# Altium integrated library Lattice Semiconductor ispMACH 4000V.IntLib: 226 symbols (part 21 of 33)
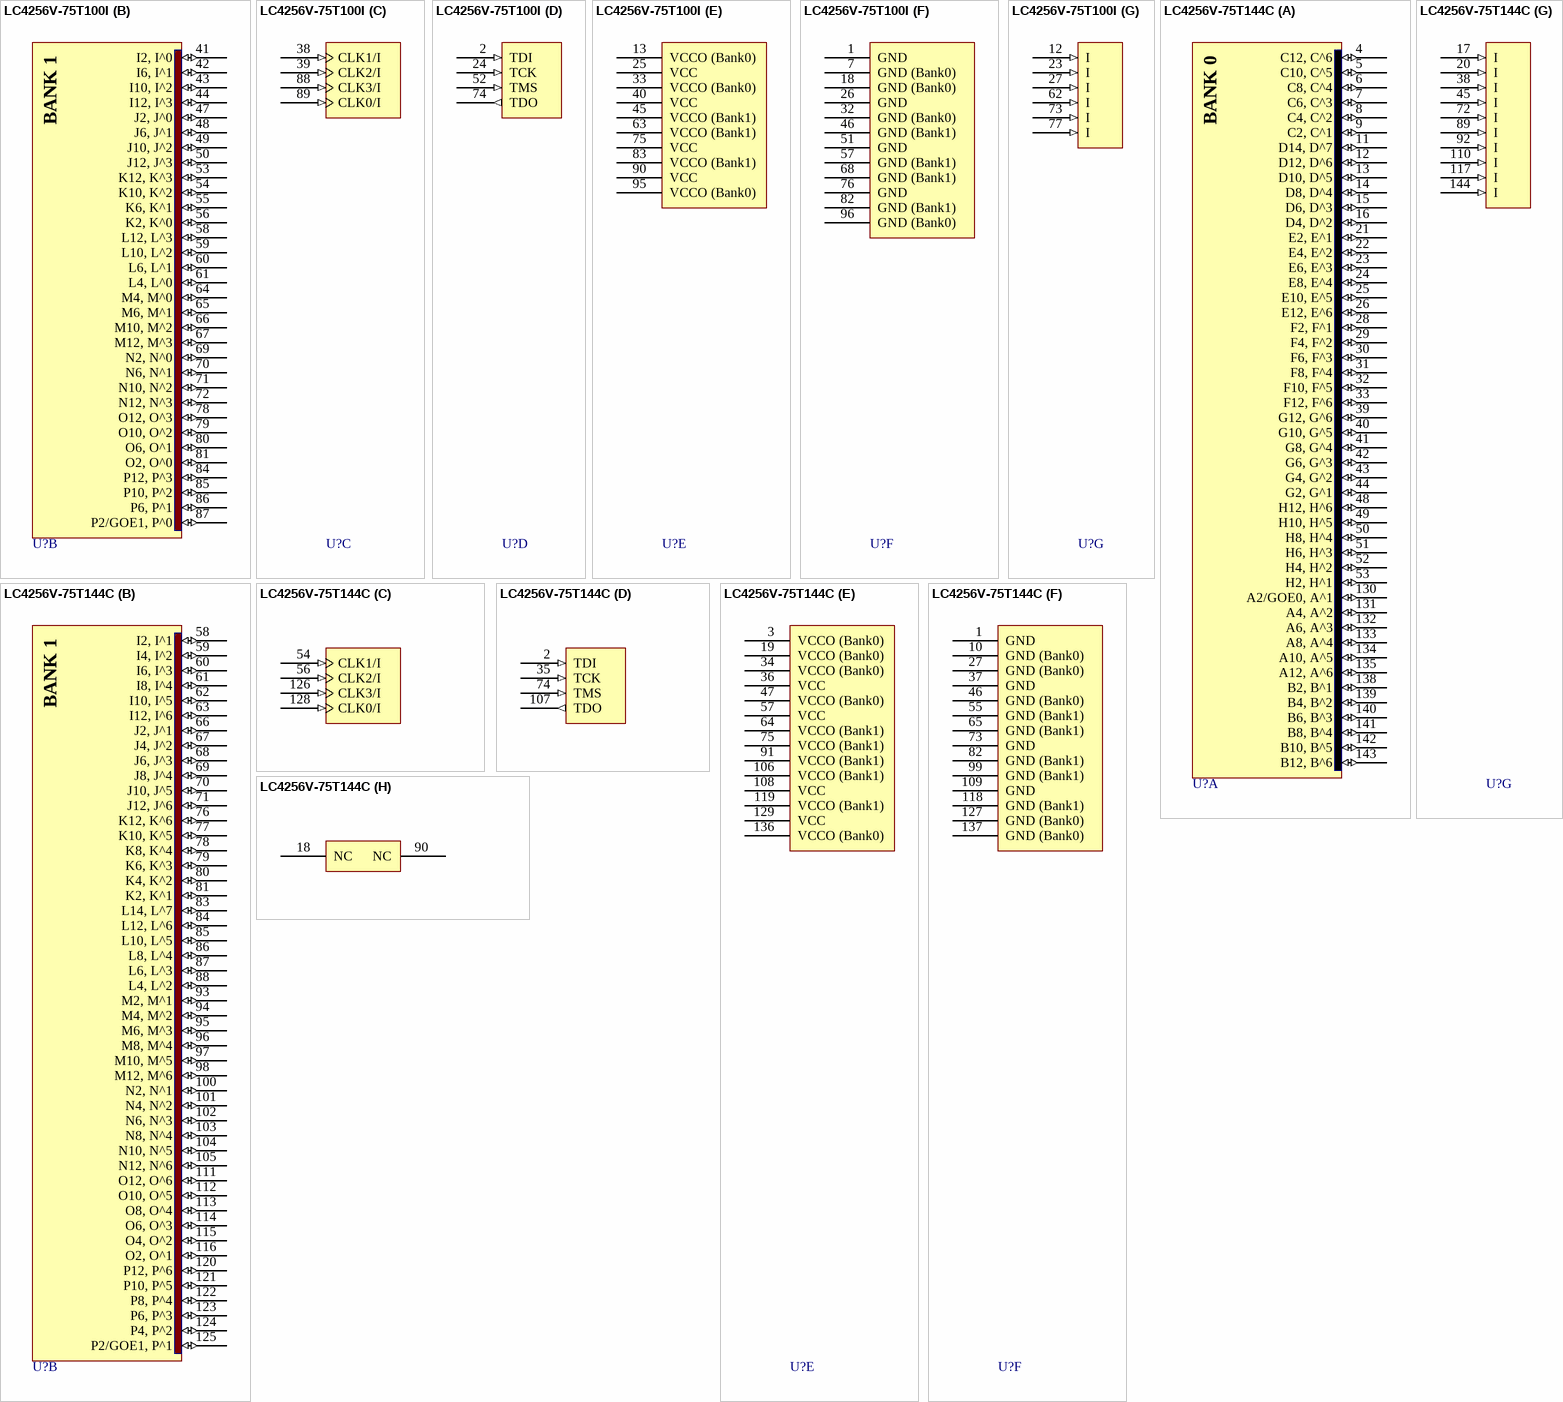
[diagram p147: symbols LC4256V-75T100I to LC4256V-75T144C]

## LC4256V-75T144C
designator U?
ispMACH 4256 SuperFAST High Density PLD, 3.3 V, 96 User I/Os, 144-Pin TQFP, 7.5 ns, Commercial Grade; DatasheetVersion: ver22.3, Mar-2007; PackageVersion: ver02.8, Jul-2011; PackageReference: TQFP144; PackageDescription: 144-Pin Thin Quad Flat Pack (TQFP144); Code_JEDEC: MS-026-BFB; ComponentLink1Description: Manufacturer URL; ComponentLink1URL: http://www.latticesemi.com/; ComponentLink2Description: Datasheet; ComponentLink2URL: http://www.latticesemi.com/dynamic/view_document.cfm?document_id=3646
footprint TQFP144_N (Thin QFP, 144-Leads, Body 20x20mm, Pitch 0.5mm, IPC Medium Density)
footprint TQFP144_L (Thin QFP, 144-Leads, Body 20x20mm, Pitch 0.5mm, IPC High Density)
footprint TQFP144_M (Thin QFP, 144-Leads, Body 20x20mm, Pitch 0.5mm, IPC Low Density)
part A pins: 4 C12, C^6 (io) "General purpose I/O.", 5 C10, C^5 (io) "General purpose I/O.", 6 C8, C^4 (io) "General purpose I/O.", 7 C6, C^3 (io) "General purpose I/O.", 8 C4, C^2 (io) "General purpose I/O.", 9 C2, C^1 (io) "General purpose I/O.", 11 D14, D^7 (io) "General purpose I/O.", 12 D12, D^6 (io) "General purpose I/O.", 13 D10, D^5 (io) "General purpose I/O.", 14 D8, D^4 (io) "General purpose I/O.", 15 D6, D^3 (io) "General purpose I/O.", 16 D4, D^2 (io) "General purpose I/O.", 21 E2, E^1 (io) "General purpose I/O.", 22 E4, E^2 (io) "General purpose I/O.", 23 E6, E^3 (io) "General purpose I/O.", 24 E8, E^4 (io) "General purpose I/O.", 25 E10, E^5 (io) "General purpose I/O.", 26 E12, E^6 (io) "General purpose I/O.", 28 F2, F^1 (io) "General purpose I/O.", 29 F4, F^2 (io) "General purpose I/O.", 30 F6, F^3 (io) "General purpose I/O.", 31 F8, F^4 (io) "General purpose I/O.", 32 F10, F^5 (io) "General purpose I/O.", 33 F12, F^6 (io) "General purpose I/O.", 39 G12, G^6 (io) "General purpose I/O.", 40 G10, G^5 (io) "General purpose I/O.", 41 G8, G^4 (io) "General purpose I/O.", 42 G6, G^3 (io) "General purpose I/O.", 43 G4, G^2 (io) "General purpose I/O.", 44 G2, G^1 (io) "General purpose I/O.", 48 H12, H^6 (io) "General purpose I/O.", 49 H10, H^5 (io) "General purpose I/O.", 50 H8, H^4 (io) "General purpose I/O.", 51 H6, H^3 (io) "General purpose I/O.", 52 H4, H^2 (io) "General purpose I/O.", 53 H2, H^1 (io) "General purpose I/O.", 130 A2/GOE0, A^1 (io) "Either Global Output Enable Input or general I/O.", 131 A4, A^2 (io) "General purpose I/O.", 132 A6, A^3 (io) "General purpose I/O.", 133 A8, A^4 (io) "General purpose I/O.", 134 A10, A^5 (io) "General purpose I/O.", 135 A12, A^6 (io) "General purpose I/O.", 138 B2, B^1 (io) "General purpose I/O.", 139 B4, B^2 (io) "General purpose I/O.", 140 B6, B^3 (io) "General purpose I/O.", 141 B8, B^4 (io) "General purpose I/O.", 142 B10, B^5 (io) "General purpose I/O.", 143 B12, B^6 (io) "General purpose I/O."
part B pins: 58 I2, I^1 (io) "General purpose I/O.", 59 I4, I^2 (io) "General purpose I/O.", 60 I6, I^3 (io) "General purpose I/O.", 61 I8, I^4 (io) "General purpose I/O.", 62 I10, I^5 (io) "General purpose I/O.", 63 I12, I^6 (io) "General purpose I/O.", 66 J2, J^1 (io) "General purpose I/O.", 67 J4, J^2 (io) "General purpose I/O.", 68 J6, J^3 (io) "General purpose I/O.", 69 J8, J^4 (io) "General purpose I/O.", 70 J10, J^5 (io) "General purpose I/O.", 71 J12, J^6 (io) "General purpose I/O.", 76 K12, K^6 (io) "General purpose I/O.", 77 K10, K^5 (io) "General purpose I/O.", 78 K8, K^4 (io) "General purpose I/O.", 79 K6, K^3 (io) "General purpose I/O.", 80 K4, K^2 (io) "General purpose I/O.", 81 K2, K^1 (io) "General purpose I/O.", 83 L14, L^7 (io) "General purpose I/O.", 84 L12, L^6 (io) "General purpose I/O.", 85 L10, L^5 (io) "General purpose I/O.", 86 L8, L^4 (io) "General purpose I/O.", 87 L6, L^3 (io) "General purpose I/O.", 88 L4, L^2 (io) "General purpose I/O.", 93 M2, M^1 (io) "General purpose I/O.", 94 M4, M^2 (io) "General purpose I/O.", 95 M6, M^3 (io) "General purpose I/O.", 96 M8, M^4 (io) "General purpose I/O.", 97 M10, M^5 (io) "General purpose I/O.", 98 M12, M^6 (io) "General purpose I/O.", 100 N2, N^1 (io) "General purpose I/O.", 101 N4, N^2 (io) "General purpose I/O.", 102 N6, N^3 (io) "General purpose I/O.", 103 N8, N^4 (io) "General purpose I/O.", 104 N10, N^5 (io) "General purpose I/O.", 105 N12, N^6 (io) "General purpose I/O.", 111 O12, O^6 (io) "General purpose I/O.", 112 O10, O^5 (io) "General purpose I/O.", 113 O8, O^4 (io) "General purpose I/O.", 114 O6, O^3 (io) "General purpose I/O.", 115 O4, O^2 (io) "General purpose I/O.", 116 O2, O^1 (io) "General purpose I/O.", 120 P12, P^6 (io) "General purpose I/O.", 121 P10, P^5 (io) "General purpose I/O.", 122 P8, P^4 (io) "General purpose I/O.", 123 P6, P^3 (io) "General purpose I/O.", 124 P4, P^2 (io) "General purpose I/O.", 125 P2/GOE1, P^1 (io) "Either Global Output Enable Input or general I/O."
part C pins: 54 CLK1/I (in) "Either CLK input or input.", 56 CLK2/I (in) "Either CLK input or input.", 126 CLK3/I (in) "Either CLK input or input.", 128 CLK0/I (in) "Either CLK input or input."
part D pins: 2 TDI (in) "Test Data Input. Loads data into device using 1149.1 state machine.", 35 TCK (in) "Test Clock Input for 1149.1 state machine.", 74 TMS (in) "Test Mode Select Input to control 1149.1 state machine.", 107 TDO (out) "Test Data Output. Shifts data out of device using 1149.1."
part E pins: 3 VCCO (Bank0) (power) "Power supply pin for I/O bank.", 19 VCCO (Bank0) (power) "Power supply pin for I/O bank.", 34 VCCO (Bank0) (power) "Power supply pin for I/O bank.", 36 VCC (power) "Power supply for logic core and JTAG port.", 47 VCCO (Bank0) (power) "Power supply pin for I/O bank.", 57 VCC (power) "Power supply for logic core and JTAG port.", 64 VCCO (Bank1) (power) "Power supply pin for I/O bank.", 75 VCCO (Bank1) (power) "Power supply pin for I/O bank.", 91 VCCO (Bank1) (power) "Power supply pin for I/O bank.", 106 VCCO (Bank1) (power) "Power supply pin for I/O bank.", 108 VCC (power) "Power supply for logic core and JTAG port.", 119 VCCO (Bank1) (power) "Power supply pin for I/O bank.", 129 VCC (power) "Power supply for logic core and JTAG port.", 136 VCCO (Bank0) (power) "Power supply pin for I/O bank."
part F pins: 1 GND (power) "Ground", 10 GND (Bank0) (power) "I/O Ground", 27 GND (Bank0) (power) "I/O Ground", 37 GND (power) "Ground", 46 GND (Bank0) (power) "I/O Ground", 55 GND (Bank1) (power) "I/O Ground", 65 GND (Bank1) (power) "I/O Ground", 73 GND (power) "Ground", 82 GND (Bank1) (power) "I/O Ground", 99 GND (Bank1) (power) "I/O Ground", 109 GND (power) "Ground", 118 GND (Bank1) (power) "I/O Ground", 127 GND (Bank0) (power) "I/O Ground", 137 GND (Bank0) (power) "I/O Ground"
part G pins: 17 I (in) "Input Signal Pin.", 20 I (in) "Input Signal Pin.", 38 I (in) "Input Signal Pin.", 45 I (in) "Input Signal Pin.", 72 I (in) "Input Signal Pin.", 89 I (in) "Input Signal Pin.", 92 I (in) "Input Signal Pin.", 110 I (in) "Input Signal Pin.", 117 I (in) "Input Signal Pin.", 144 I (in) "Input Signal Pin."
part H pins: 18 NC "Not Connected.", 90 NC "Not Connected."
part A text: BANK 0
part B text: BANK 1

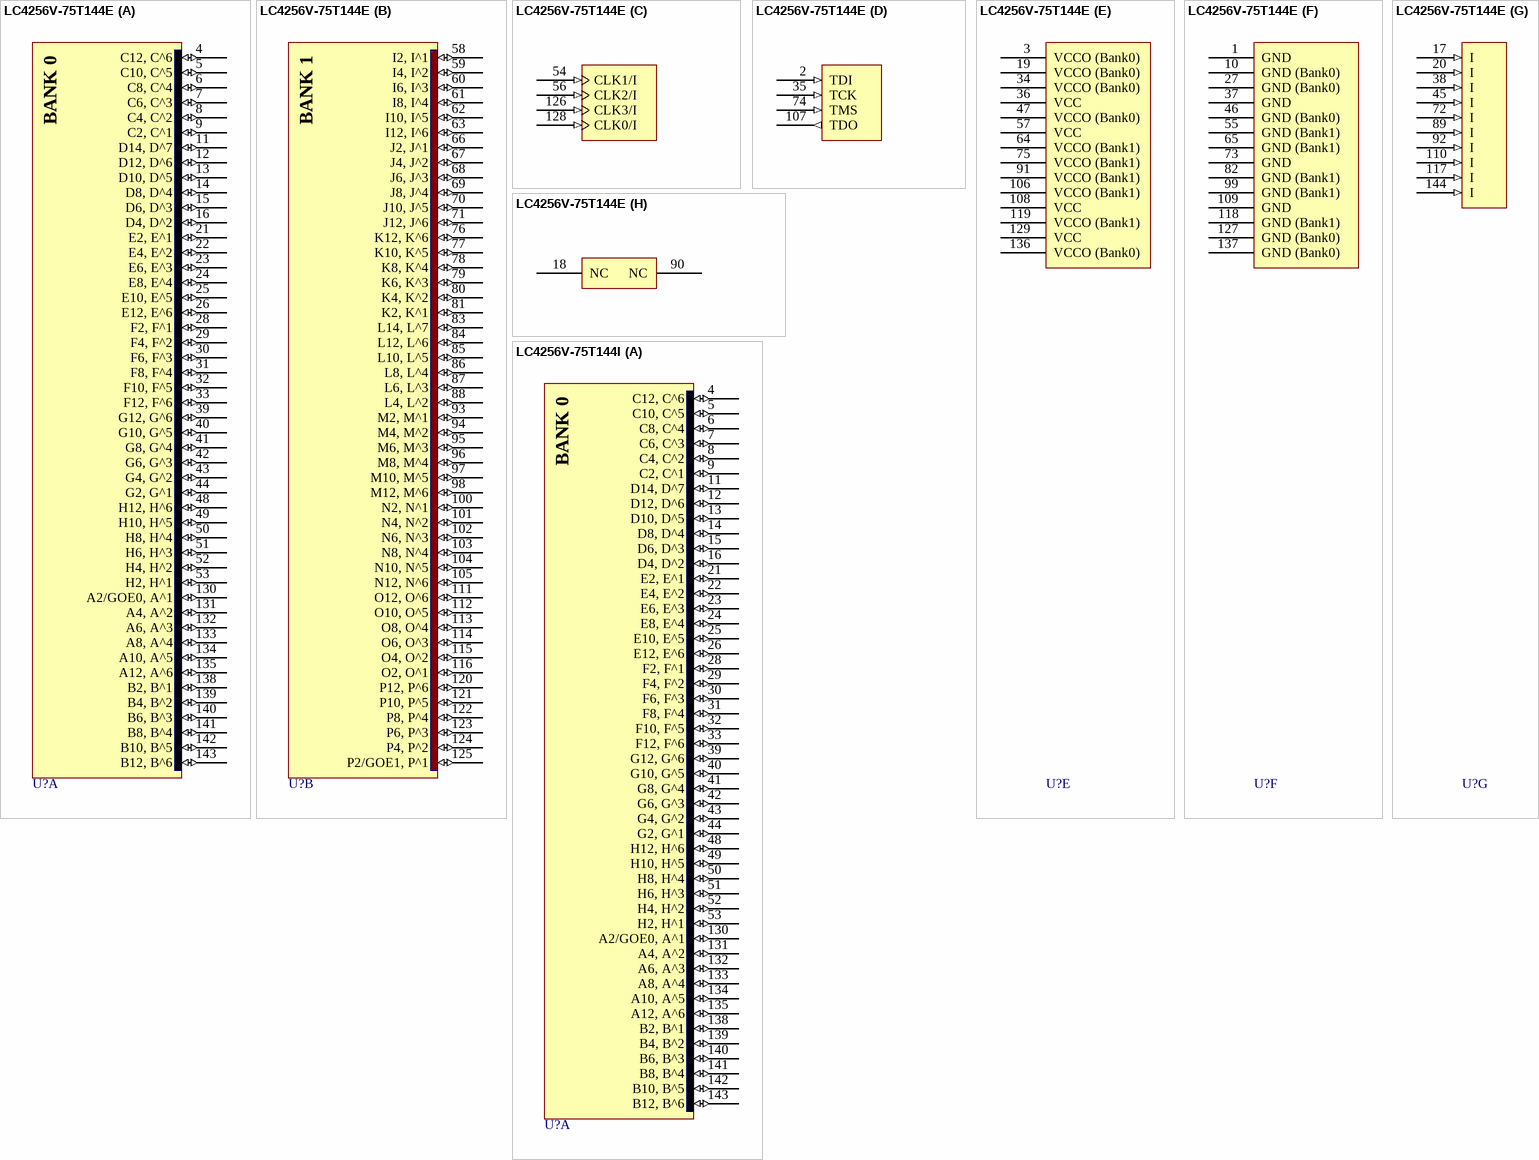
[diagram p77: symbols LC4256V-75T144E to LC4256V-75T144I]

## LC4256V-75T144E
designator U?
ispMACH 4256 SuperFAST High Density PLD, 3.3 V, 96 User I/Os, 144-Pin TQFP, 7.5 ns, Automotive Grade; DatasheetVersion: ver22.3, Mar-2007; PackageVersion: ver02.8, Jul-2011; PackageReference: TQFP144; PackageDescription: 144-Pin Thin Quad Flat Pack (TQFP144); Code_JEDEC: MS-026-BFB; ComponentLink1Description: Manufacturer URL; ComponentLink1URL: http://www.latticesemi.com/; ComponentLink2Description: Datasheet; ComponentLink2URL: http://www.latticesemi.com/dynamic/view_document.cfm?document_id=3646
footprint TQFP144_N (Thin QFP, 144-Leads, Body 20x20mm, Pitch 0.5mm, IPC Medium Density)
footprint TQFP144_L (Thin QFP, 144-Leads, Body 20x20mm, Pitch 0.5mm, IPC High Density)
footprint TQFP144_M (Thin QFP, 144-Leads, Body 20x20mm, Pitch 0.5mm, IPC Low Density)
part A pins: 4 C12, C^6 (io) "General purpose I/O.", 5 C10, C^5 (io) "General purpose I/O.", 6 C8, C^4 (io) "General purpose I/O.", 7 C6, C^3 (io) "General purpose I/O.", 8 C4, C^2 (io) "General purpose I/O.", 9 C2, C^1 (io) "General purpose I/O.", 11 D14, D^7 (io) "General purpose I/O.", 12 D12, D^6 (io) "General purpose I/O.", 13 D10, D^5 (io) "General purpose I/O.", 14 D8, D^4 (io) "General purpose I/O.", 15 D6, D^3 (io) "General purpose I/O.", 16 D4, D^2 (io) "General purpose I/O.", 21 E2, E^1 (io) "General purpose I/O.", 22 E4, E^2 (io) "General purpose I/O.", 23 E6, E^3 (io) "General purpose I/O.", 24 E8, E^4 (io) "General purpose I/O.", 25 E10, E^5 (io) "General purpose I/O.", 26 E12, E^6 (io) "General purpose I/O.", 28 F2, F^1 (io) "General purpose I/O.", 29 F4, F^2 (io) "General purpose I/O.", 30 F6, F^3 (io) "General purpose I/O.", 31 F8, F^4 (io) "General purpose I/O.", 32 F10, F^5 (io) "General purpose I/O.", 33 F12, F^6 (io) "General purpose I/O.", 39 G12, G^6 (io) "General purpose I/O.", 40 G10, G^5 (io) "General purpose I/O.", 41 G8, G^4 (io) "General purpose I/O.", 42 G6, G^3 (io) "General purpose I/O.", 43 G4, G^2 (io) "General purpose I/O.", 44 G2, G^1 (io) "General purpose I/O.", 48 H12, H^6 (io) "General purpose I/O.", 49 H10, H^5 (io) "General purpose I/O.", 50 H8, H^4 (io) "General purpose I/O.", 51 H6, H^3 (io) "General purpose I/O.", 52 H4, H^2 (io) "General purpose I/O.", 53 H2, H^1 (io) "General purpose I/O.", 130 A2/GOE0, A^1 (io) "Either Global Output Enable Input or general I/O.", 131 A4, A^2 (io) "General purpose I/O.", 132 A6, A^3 (io) "General purpose I/O.", 133 A8, A^4 (io) "General purpose I/O.", 134 A10, A^5 (io) "General purpose I/O.", 135 A12, A^6 (io) "General purpose I/O.", 138 B2, B^1 (io) "General purpose I/O.", 139 B4, B^2 (io) "General purpose I/O.", 140 B6, B^3 (io) "General purpose I/O.", 141 B8, B^4 (io) "General purpose I/O.", 142 B10, B^5 (io) "General purpose I/O.", 143 B12, B^6 (io) "General purpose I/O."
part B pins: 58 I2, I^1 (io) "General purpose I/O.", 59 I4, I^2 (io) "General purpose I/O.", 60 I6, I^3 (io) "General purpose I/O.", 61 I8, I^4 (io) "General purpose I/O.", 62 I10, I^5 (io) "General purpose I/O.", 63 I12, I^6 (io) "General purpose I/O.", 66 J2, J^1 (io) "General purpose I/O.", 67 J4, J^2 (io) "General purpose I/O.", 68 J6, J^3 (io) "General purpose I/O.", 69 J8, J^4 (io) "General purpose I/O.", 70 J10, J^5 (io) "General purpose I/O.", 71 J12, J^6 (io) "General purpose I/O.", 76 K12, K^6 (io) "General purpose I/O.", 77 K10, K^5 (io) "General purpose I/O.", 78 K8, K^4 (io) "General purpose I/O.", 79 K6, K^3 (io) "General purpose I/O.", 80 K4, K^2 (io) "General purpose I/O.", 81 K2, K^1 (io) "General purpose I/O.", 83 L14, L^7 (io) "General purpose I/O.", 84 L12, L^6 (io) "General purpose I/O.", 85 L10, L^5 (io) "General purpose I/O.", 86 L8, L^4 (io) "General purpose I/O.", 87 L6, L^3 (io) "General purpose I/O.", 88 L4, L^2 (io) "General purpose I/O.", 93 M2, M^1 (io) "General purpose I/O.", 94 M4, M^2 (io) "General purpose I/O.", 95 M6, M^3 (io) "General purpose I/O.", 96 M8, M^4 (io) "General purpose I/O.", 97 M10, M^5 (io) "General purpose I/O.", 98 M12, M^6 (io) "General purpose I/O.", 100 N2, N^1 (io) "General purpose I/O.", 101 N4, N^2 (io) "General purpose I/O.", 102 N6, N^3 (io) "General purpose I/O.", 103 N8, N^4 (io) "General purpose I/O.", 104 N10, N^5 (io) "General purpose I/O.", 105 N12, N^6 (io) "General purpose I/O.", 111 O12, O^6 (io) "General purpose I/O.", 112 O10, O^5 (io) "General purpose I/O.", 113 O8, O^4 (io) "General purpose I/O.", 114 O6, O^3 (io) "General purpose I/O.", 115 O4, O^2 (io) "General purpose I/O.", 116 O2, O^1 (io) "General purpose I/O.", 120 P12, P^6 (io) "General purpose I/O.", 121 P10, P^5 (io) "General purpose I/O.", 122 P8, P^4 (io) "General purpose I/O.", 123 P6, P^3 (io) "General purpose I/O.", 124 P4, P^2 (io) "General purpose I/O.", 125 P2/GOE1, P^1 (io) "Either Global Output Enable Input or general I/O."
part C pins: 54 CLK1/I (in) "Either CLK input or input.", 56 CLK2/I (in) "Either CLK input or input.", 126 CLK3/I (in) "Either CLK input or input.", 128 CLK0/I (in) "Either CLK input or input."
part D pins: 2 TDI (in) "Test Data Input. Loads data into device using 1149.1 state machine.", 35 TCK (in) "Test Clock Input for 1149.1 state machine.", 74 TMS (in) "Test Mode Select Input to control 1149.1 state machine.", 107 TDO (out) "Test Data Output. Shifts data out of device using 1149.1."
part E pins: 3 VCCO (Bank0) (power) "Power supply pin for I/O bank.", 19 VCCO (Bank0) (power) "Power supply pin for I/O bank.", 34 VCCO (Bank0) (power) "Power supply pin for I/O bank.", 36 VCC (power) "Power supply for logic core and JTAG port.", 47 VCCO (Bank0) (power) "Power supply pin for I/O bank.", 57 VCC (power) "Power supply for logic core and JTAG port.", 64 VCCO (Bank1) (power) "Power supply pin for I/O bank.", 75 VCCO (Bank1) (power) "Power supply pin for I/O bank.", 91 VCCO (Bank1) (power) "Power supply pin for I/O bank.", 106 VCCO (Bank1) (power) "Power supply pin for I/O bank.", 108 VCC (power) "Power supply for logic core and JTAG port.", 119 VCCO (Bank1) (power) "Power supply pin for I/O bank.", 129 VCC (power) "Power supply for logic core and JTAG port.", 136 VCCO (Bank0) (power) "Power supply pin for I/O bank."
part F pins: 1 GND (power) "Ground", 10 GND (Bank0) (power) "I/O Ground", 27 GND (Bank0) (power) "I/O Ground", 37 GND (power) "Ground", 46 GND (Bank0) (power) "I/O Ground", 55 GND (Bank1) (power) "I/O Ground", 65 GND (Bank1) (power) "I/O Ground", 73 GND (power) "Ground", 82 GND (Bank1) (power) "I/O Ground", 99 GND (Bank1) (power) "I/O Ground", 109 GND (power) "Ground", 118 GND (Bank1) (power) "I/O Ground", 127 GND (Bank0) (power) "I/O Ground", 137 GND (Bank0) (power) "I/O Ground"
part G pins: 17 I (in) "Input Signal Pin.", 20 I (in) "Input Signal Pin.", 38 I (in) "Input Signal Pin.", 45 I (in) "Input Signal Pin.", 72 I (in) "Input Signal Pin.", 89 I (in) "Input Signal Pin.", 92 I (in) "Input Signal Pin.", 110 I (in) "Input Signal Pin.", 117 I (in) "Input Signal Pin.", 144 I (in) "Input Signal Pin."
part H pins: 18 NC "Not Connected.", 90 NC "Not Connected."
part A text: BANK 0
part B text: BANK 1

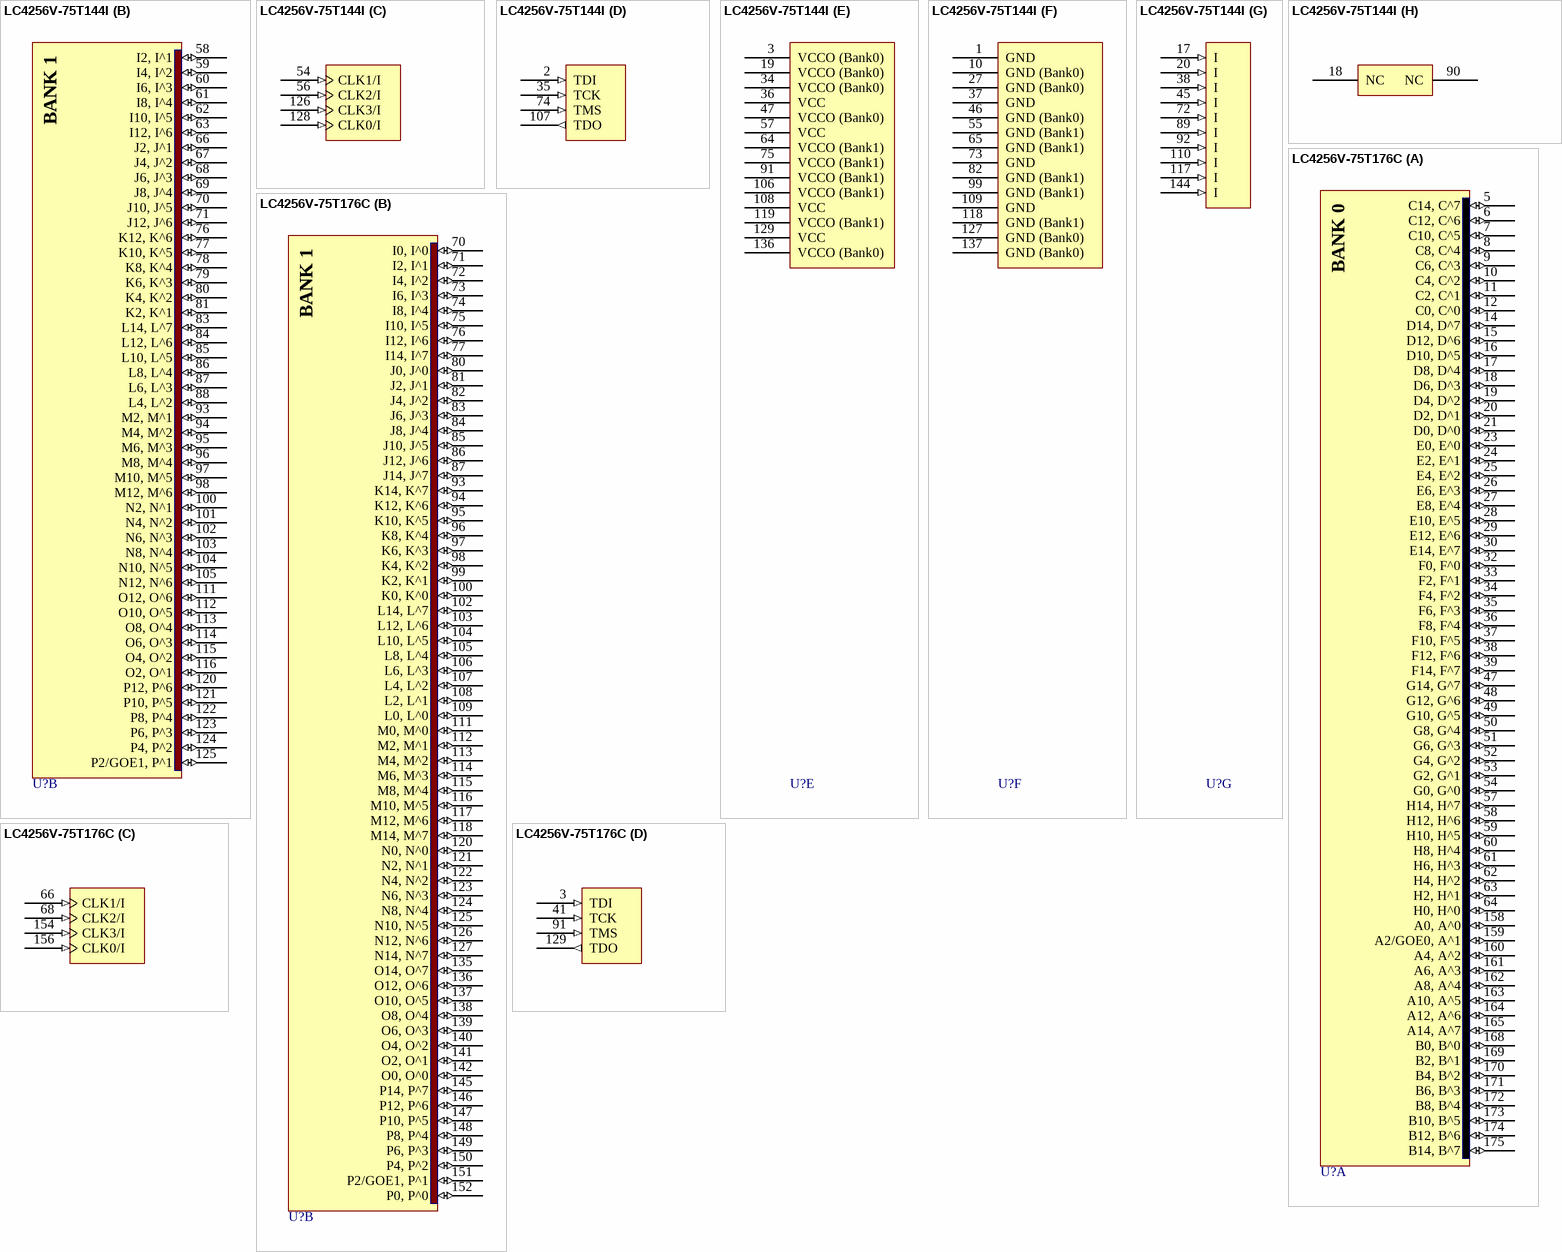
[diagram p78: symbols LC4256V-75T144I to LC4256V-75T176C]

## LC4256V-75T144I
designator U?
ispMACH 4256 SuperFAST High Density PLD, 3.3 V, 96 User I/Os, 144-Pin TQFP, 7.5 ns, Industrial Grade; DatasheetVersion: ver22.3, Mar-2007; PackageVersion: ver02.8, Jul-2011; PackageReference: TQFP144; PackageDescription: 144-Pin Thin Quad Flat Pack (TQFP144); Code_JEDEC: MS-026-BFB; ComponentLink1Description: Manufacturer URL; ComponentLink1URL: http://www.latticesemi.com/; ComponentLink2Description: Datasheet; ComponentLink2URL: http://www.latticesemi.com/dynamic/view_document.cfm?document_id=3646
footprint TQFP144_N (Thin QFP, 144-Leads, Body 20x20mm, Pitch 0.5mm, IPC Medium Density)
footprint TQFP144_L (Thin QFP, 144-Leads, Body 20x20mm, Pitch 0.5mm, IPC High Density)
footprint TQFP144_M (Thin QFP, 144-Leads, Body 20x20mm, Pitch 0.5mm, IPC Low Density)
part A pins: 4 C12, C^6 (io) "General purpose I/O.", 5 C10, C^5 (io) "General purpose I/O.", 6 C8, C^4 (io) "General purpose I/O.", 7 C6, C^3 (io) "General purpose I/O.", 8 C4, C^2 (io) "General purpose I/O.", 9 C2, C^1 (io) "General purpose I/O.", 11 D14, D^7 (io) "General purpose I/O.", 12 D12, D^6 (io) "General purpose I/O.", 13 D10, D^5 (io) "General purpose I/O.", 14 D8, D^4 (io) "General purpose I/O.", 15 D6, D^3 (io) "General purpose I/O.", 16 D4, D^2 (io) "General purpose I/O.", 21 E2, E^1 (io) "General purpose I/O.", 22 E4, E^2 (io) "General purpose I/O.", 23 E6, E^3 (io) "General purpose I/O.", 24 E8, E^4 (io) "General purpose I/O.", 25 E10, E^5 (io) "General purpose I/O.", 26 E12, E^6 (io) "General purpose I/O.", 28 F2, F^1 (io) "General purpose I/O.", 29 F4, F^2 (io) "General purpose I/O.", 30 F6, F^3 (io) "General purpose I/O.", 31 F8, F^4 (io) "General purpose I/O.", 32 F10, F^5 (io) "General purpose I/O.", 33 F12, F^6 (io) "General purpose I/O.", 39 G12, G^6 (io) "General purpose I/O.", 40 G10, G^5 (io) "General purpose I/O.", 41 G8, G^4 (io) "General purpose I/O.", 42 G6, G^3 (io) "General purpose I/O.", 43 G4, G^2 (io) "General purpose I/O.", 44 G2, G^1 (io) "General purpose I/O.", 48 H12, H^6 (io) "General purpose I/O.", 49 H10, H^5 (io) "General purpose I/O.", 50 H8, H^4 (io) "General purpose I/O.", 51 H6, H^3 (io) "General purpose I/O.", 52 H4, H^2 (io) "General purpose I/O.", 53 H2, H^1 (io) "General purpose I/O.", 130 A2/GOE0, A^1 (io) "Either Global Output Enable Input or general I/O.", 131 A4, A^2 (io) "General purpose I/O.", 132 A6, A^3 (io) "General purpose I/O.", 133 A8, A^4 (io) "General purpose I/O.", 134 A10, A^5 (io) "General purpose I/O.", 135 A12, A^6 (io) "General purpose I/O.", 138 B2, B^1 (io) "General purpose I/O.", 139 B4, B^2 (io) "General purpose I/O.", 140 B6, B^3 (io) "General purpose I/O.", 141 B8, B^4 (io) "General purpose I/O.", 142 B10, B^5 (io) "General purpose I/O.", 143 B12, B^6 (io) "General purpose I/O."
part B pins: 58 I2, I^1 (io) "General purpose I/O.", 59 I4, I^2 (io) "General purpose I/O.", 60 I6, I^3 (io) "General purpose I/O.", 61 I8, I^4 (io) "General purpose I/O.", 62 I10, I^5 (io) "General purpose I/O.", 63 I12, I^6 (io) "General purpose I/O.", 66 J2, J^1 (io) "General purpose I/O.", 67 J4, J^2 (io) "General purpose I/O.", 68 J6, J^3 (io) "General purpose I/O.", 69 J8, J^4 (io) "General purpose I/O.", 70 J10, J^5 (io) "General purpose I/O.", 71 J12, J^6 (io) "General purpose I/O.", 76 K12, K^6 (io) "General purpose I/O.", 77 K10, K^5 (io) "General purpose I/O.", 78 K8, K^4 (io) "General purpose I/O.", 79 K6, K^3 (io) "General purpose I/O.", 80 K4, K^2 (io) "General purpose I/O.", 81 K2, K^1 (io) "General purpose I/O.", 83 L14, L^7 (io) "General purpose I/O.", 84 L12, L^6 (io) "General purpose I/O.", 85 L10, L^5 (io) "General purpose I/O.", 86 L8, L^4 (io) "General purpose I/O.", 87 L6, L^3 (io) "General purpose I/O.", 88 L4, L^2 (io) "General purpose I/O.", 93 M2, M^1 (io) "General purpose I/O.", 94 M4, M^2 (io) "General purpose I/O.", 95 M6, M^3 (io) "General purpose I/O.", 96 M8, M^4 (io) "General purpose I/O.", 97 M10, M^5 (io) "General purpose I/O.", 98 M12, M^6 (io) "General purpose I/O.", 100 N2, N^1 (io) "General purpose I/O.", 101 N4, N^2 (io) "General purpose I/O.", 102 N6, N^3 (io) "General purpose I/O.", 103 N8, N^4 (io) "General purpose I/O.", 104 N10, N^5 (io) "General purpose I/O.", 105 N12, N^6 (io) "General purpose I/O.", 111 O12, O^6 (io) "General purpose I/O.", 112 O10, O^5 (io) "General purpose I/O.", 113 O8, O^4 (io) "General purpose I/O.", 114 O6, O^3 (io) "General purpose I/O.", 115 O4, O^2 (io) "General purpose I/O.", 116 O2, O^1 (io) "General purpose I/O.", 120 P12, P^6 (io) "General purpose I/O.", 121 P10, P^5 (io) "General purpose I/O.", 122 P8, P^4 (io) "General purpose I/O.", 123 P6, P^3 (io) "General purpose I/O.", 124 P4, P^2 (io) "General purpose I/O.", 125 P2/GOE1, P^1 (io) "Either Global Output Enable Input or general I/O."
part C pins: 54 CLK1/I (in) "Either CLK input or input.", 56 CLK2/I (in) "Either CLK input or input.", 126 CLK3/I (in) "Either CLK input or input.", 128 CLK0/I (in) "Either CLK input or input."
part D pins: 2 TDI (in) "Test Data Input. Loads data into device using 1149.1 state machine.", 35 TCK (in) "Test Clock Input for 1149.1 state machine.", 74 TMS (in) "Test Mode Select Input to control 1149.1 state machine.", 107 TDO (out) "Test Data Output. Shifts data out of device using 1149.1."
part E pins: 3 VCCO (Bank0) (power) "Power supply pin for I/O bank.", 19 VCCO (Bank0) (power) "Power supply pin for I/O bank.", 34 VCCO (Bank0) (power) "Power supply pin for I/O bank.", 36 VCC (power) "Power supply for logic core and JTAG port.", 47 VCCO (Bank0) (power) "Power supply pin for I/O bank.", 57 VCC (power) "Power supply for logic core and JTAG port.", 64 VCCO (Bank1) (power) "Power supply pin for I/O bank.", 75 VCCO (Bank1) (power) "Power supply pin for I/O bank.", 91 VCCO (Bank1) (power) "Power supply pin for I/O bank.", 106 VCCO (Bank1) (power) "Power supply pin for I/O bank.", 108 VCC (power) "Power supply for logic core and JTAG port.", 119 VCCO (Bank1) (power) "Power supply pin for I/O bank.", 129 VCC (power) "Power supply for logic core and JTAG port.", 136 VCCO (Bank0) (power) "Power supply pin for I/O bank."
part F pins: 1 GND (power) "Ground", 10 GND (Bank0) (power) "I/O Ground", 27 GND (Bank0) (power) "I/O Ground", 37 GND (power) "Ground", 46 GND (Bank0) (power) "I/O Ground", 55 GND (Bank1) (power) "I/O Ground", 65 GND (Bank1) (power) "I/O Ground", 73 GND (power) "Ground", 82 GND (Bank1) (power) "I/O Ground", 99 GND (Bank1) (power) "I/O Ground", 109 GND (power) "Ground", 118 GND (Bank1) (power) "I/O Ground", 127 GND (Bank0) (power) "I/O Ground", 137 GND (Bank0) (power) "I/O Ground"
part G pins: 17 I (in) "Input Signal Pin.", 20 I (in) "Input Signal Pin.", 38 I (in) "Input Signal Pin.", 45 I (in) "Input Signal Pin.", 72 I (in) "Input Signal Pin.", 89 I (in) "Input Signal Pin.", 92 I (in) "Input Signal Pin.", 110 I (in) "Input Signal Pin.", 117 I (in) "Input Signal Pin.", 144 I (in) "Input Signal Pin."
part H pins: 18 NC "Not Connected.", 90 NC "Not Connected."
part A text: BANK 0
part B text: BANK 1

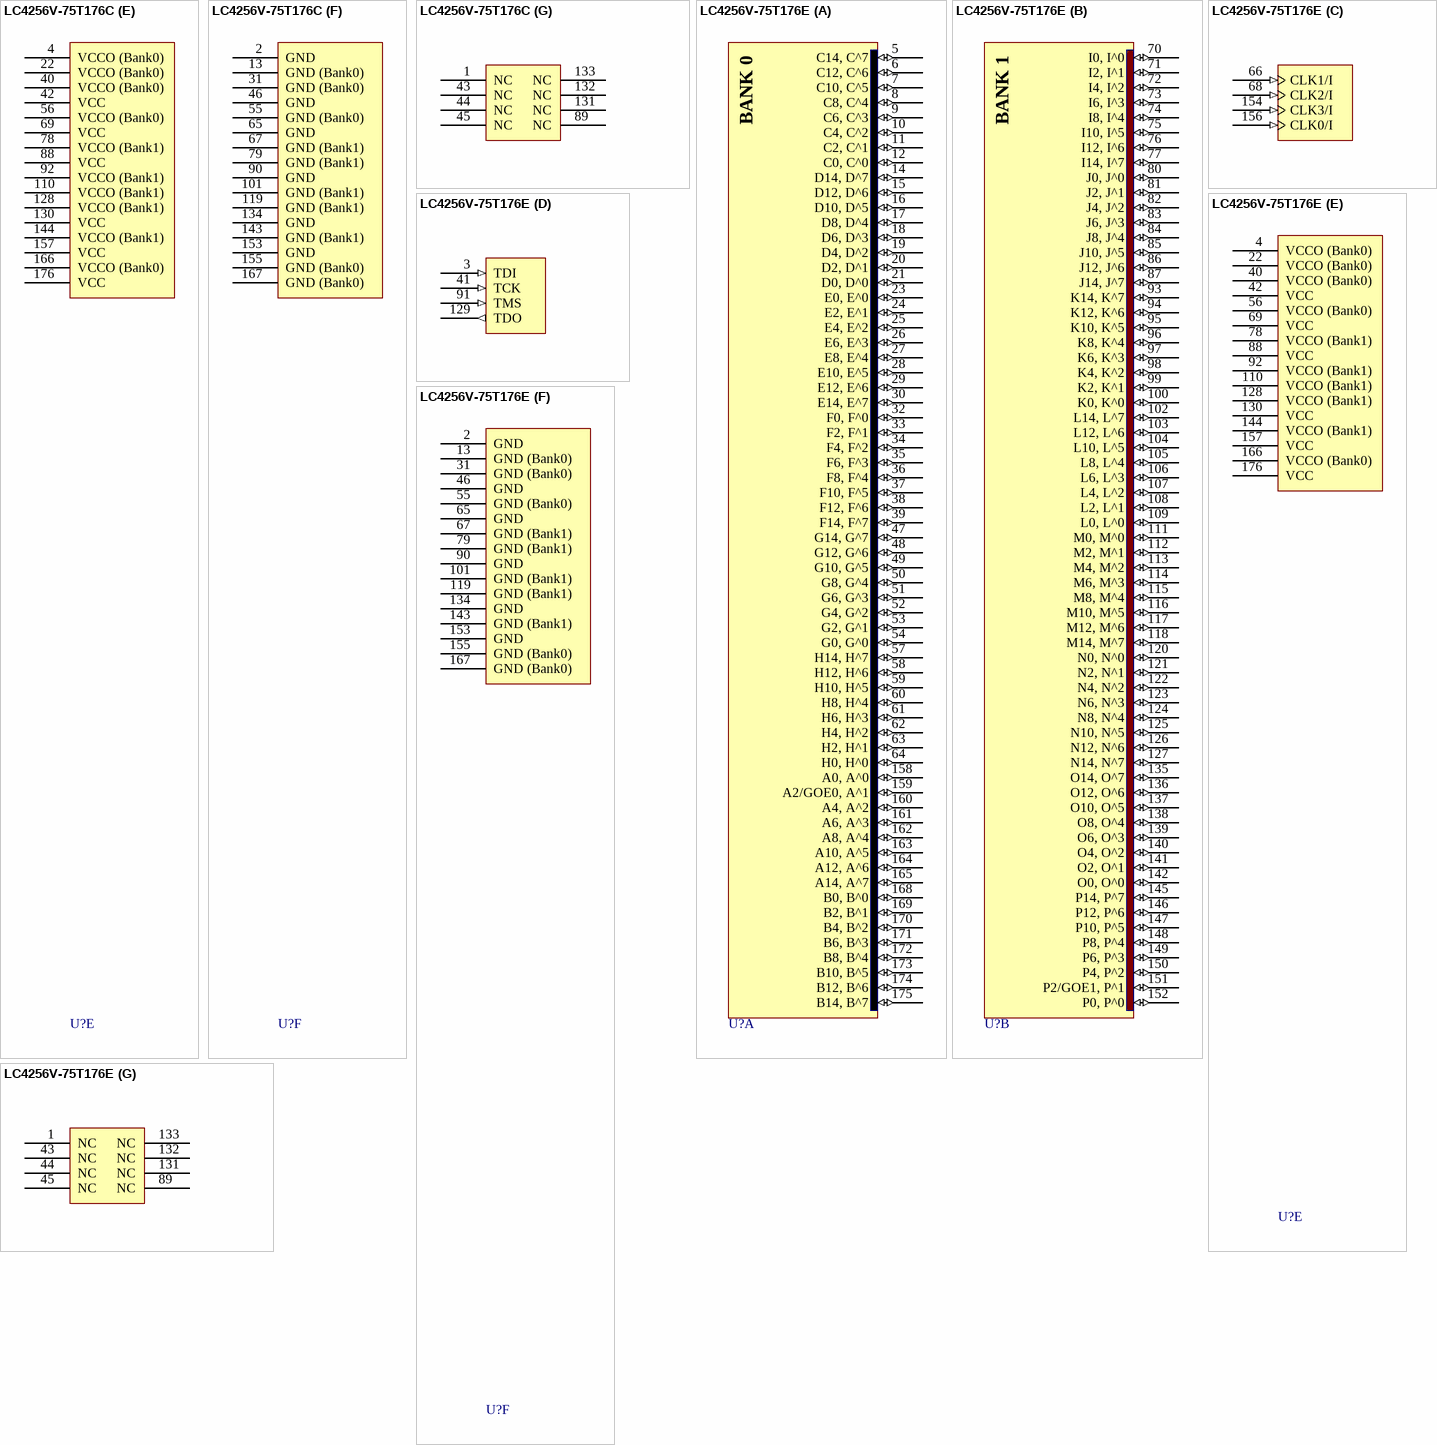
[diagram p79: symbols LC4256V-75T176C to LC4256V-75T176E]

## LC4256V-75T176C
designator U?
ispMACH 4256 SuperFAST High Density PLD, 3.3 V, 128 User I/Os, 176-Pin TQFP, 7.5 ns, Commercial Grade; DatasheetVersion: ver22.3, Mar-2007; PackageVersion: ver01.2 Feb-2007; PackageReference: TQFP176; PackageDescription: 176-Pin Thin Quad Flat Pack (TQFP176); ComponentLink1Description: Manufacturer URL; ComponentLink1URL: http://www.latticesemi.com/; ComponentLink2Description: Datasheet; ComponentLink2URL: http://www.latticesemi.com/dynamic/view_document.cfm?document_id=3646
footprint TQFP176_N (Thin QFP, 176-Leads, Body 24x24mm, Pitch 0.5mm, IPC Medium Density)
footprint TQFP176_L (Thin QFP, 176-Leads, Body 24x24mm, Pitch 0.5mm, IPC High Density)
footprint TQFP176_M (Thin QFP, 176-Leads, Body 24x24mm, Pitch 0.5mm, IPC Low Density)
part A pins: 5 C14, C^7 (io) "General purpose I/O.", 6 C12, C^6 (io) "General purpose I/O.", 7 C10, C^5 (io) "General purpose I/O.", 8 C8, C^4 (io) "General purpose I/O.", 9 C6, C^3 (io) "General purpose I/O.", 10 C4, C^2 (io) "General purpose I/O.", 11 C2, C^1 (io) "General purpose I/O.", 12 C0, C^0 (io) "General purpose I/O.", 14 D14, D^7 (io) "General purpose I/O.", 15 D12, D^6 (io) "General purpose I/O.", 16 D10, D^5 (io) "General purpose I/O.", 17 D8, D^4 (io) "General purpose I/O.", 18 D6, D^3 (io) "General purpose I/O.", 19 D4, D^2 (io) "General purpose I/O.", 20 D2, D^1 (io) "General purpose I/O.", 21 D0, D^0 (io) "General purpose I/O.", 23 E0, E^0 (io) "General purpose I/O.", 24 E2, E^1 (io) "General purpose I/O.", 25 E4, E^2 (io) "General purpose I/O.", 26 E6, E^3 (io) "General purpose I/O.", 27 E8, E^4 (io) "General purpose I/O.", 28 E10, E^5 (io) "General purpose I/O.", 29 E12, E^6 (io) "General purpose I/O.", 30 E14, E^7 (io) "General purpose I/O.", 32 F0, F^0 (io) "General purpose I/O.", 33 F2, F^1 (io) "General purpose I/O.", 34 F4, F^2 (io) "General purpose I/O.", 35 F6, F^3 (io) "General purpose I/O.", 36 F8, F^4 (io) "General purpose I/O.", 37 F10, F^5 (io) "General purpose I/O.", 38 F12, F^6 (io) "General purpose I/O.", 39 F14, F^7 (io) "General purpose I/O.", 47 G14, G^7 (io) "General purpose I/O.", 48 G12, G^6 (io) "General purpose I/O.", 49 G10, G^5 (io) "General purpose I/O.", 50 G8, G^4 (io) "General purpose I/O.", 51 G6, G^3 (io) "General purpose I/O.", 52 G4, G^2 (io) "General purpose I/O.", 53 G2, G^1 (io) "General purpose I/O.", 54 G0, G^0 (io) "General purpose I/O.", 57 H14, H^7 (io) "General purpose I/O.", 58 H12, H^6 (io) "General purpose I/O.", 59 H10, H^5 (io) "General purpose I/O.", 60 H8, H^4 (io) "General purpose I/O.", 61 H6, H^3 (io) "General purpose I/O.", 62 H4, H^2 (io) "General purpose I/O.", 63 H2, H^1 (io) "General purpose I/O.", 64 H0, H^0 (io) "General purpose I/O.", 158 A0, A^0 (io) "General purpose I/O.", 159 A2/GOE0, A^1 (io) "Either Global Output Enable Input or general I/O.", 160 A4, A^2 (io) "General purpose I/O.", 161 A6, A^3 (io) "General purpose I/O.", 162 A8, A^4 (io) "General purpose I/O.", 163 A10, A^5 (io) "General purpose I/O.", 164 A12, A^6 (io) "General purpose I/O.", 165 A14, A^7 (io) "General purpose I/O.", 168 B0, B^0 (io) "General purpose I/O.", 169 B2, B^1 (io) "General purpose I/O.", 170 B4, B^2 (io) "General purpose I/O.", 171 B6, B^3 (io) "General purpose I/O.", 172 B8, B^4 (io) "General purpose I/O.", 173 B10, B^5 (io) "General purpose I/O.", 174 B12, B^6 (io) "General purpose I/O.", 175 B14, B^7 (io) "General purpose I/O."
part B pins: 70 I0, I^0 (io) "General purpose I/O.", 71 I2, I^1 (io) "General purpose I/O.", 72 I4, I^2 (io) "General purpose I/O.", 73 I6, I^3 (io) "General purpose I/O.", 74 I8, I^4 (io) "General purpose I/O.", 75 I10, I^5 (io) "General purpose I/O.", 76 I12, I^6 (io) "General purpose I/O.", 77 I14, I^7 (io) "General purpose I/O.", 80 J0, J^0 (io) "General purpose I/O.", 81 J2, J^1 (io) "General purpose I/O.", 82 J4, J^2 (io) "General purpose I/O.", 83 J6, J^3 (io) "General purpose I/O.", 84 J8, J^4 (io) "General purpose I/O.", 85 J10, J^5 (io) "General purpose I/O.", 86 J12, J^6 (io) "General purpose I/O.", 87 J14, J^7 (io) "General purpose I/O.", 93 K14, K^7 (io) "General purpose I/O.", 94 K12, K^6 (io) "General purpose I/O.", 95 K10, K^5 (io) "General purpose I/O.", 96 K8, K^4 (io) "General purpose I/O.", 97 K6, K^3 (io) "General purpose I/O.", 98 K4, K^2 (io) "General purpose I/O.", 99 K2, K^1 (io) "General purpose I/O.", 100 K0, K^0 (io) "General purpose I/O.", 102 L14, L^7 (io) "General purpose I/O.", 103 L12, L^6 (io) "General purpose I/O.", 104 L10, L^5 (io) "General purpose I/O.", 105 L8, L^4 (io) "General purpose I/O.", 106 L6, L^3 (io) "General purpose I/O.", 107 L4, L^2 (io) "General purpose I/O.", 108 L2, L^1 (io) "General purpose I/O.", 109 L0, L^0 (io) "General purpose I/O.", 111 M0, M^0 (io) "General purpose I/O.", 112 M2, M^1 (io) "General purpose I/O.", 113 M4, M^2 (io) "General purpose I/O.", 114 M6, M^3 (io) "General purpose I/O.", 115 M8, M^4 (io) "General purpose I/O.", 116 M10, M^5 (io) "General purpose I/O.", 117 M12, M^6 (io) "General purpose I/O.", 118 M14, M^7 (io) "General purpose I/O.", 120 N0, N^0 (io) "General purpose I/O.", 121 N2, N^1 (io) "General purpose I/O.", 122 N4, N^2 (io) "General purpose I/O.", 123 N6, N^3 (io) "General purpose I/O.", 124 N8, N^4 (io) "General purpose I/O.", 125 N10, N^5 (io) "General purpose I/O.", 126 N12, N^6 (io) "General purpose I/O.", 127 N14, N^7 (io) "General purpose I/O.", 135 O14, O^7 (io) "General purpose I/O.", 136 O12, O^6 (io) "General purpose I/O.", 137 O10, O^5 (io) "General purpose I/O.", 138 O8, O^4 (io) "General purpose I/O.", 139 O6, O^3 (io) "General purpose I/O.", 140 O4, O^2 (io) "General purpose I/O.", 141 O2, O^1 (io) "General purpose I/O.", 142 O0, O^0 (io) "General purpose I/O.", 145 P14, P^7 (io) "General purpose I/O.", 146 P12, P^6 (io) "General purpose I/O.", 147 P10, P^5 (io) "General purpose I/O.", 148 P8, P^4 (io) "General purpose I/O.", 149 P6, P^3 (io) "General purpose I/O.", 150 P4, P^2 (io) "General purpose I/O.", 151 P2/GOE1, P^1 (io) "Either Global Output Enable Input or general I/O.", 152 P0, P^0 (io) "General purpose I/O."
part C pins: 66 CLK1/I (in) "Either CLK input or input.", 68 CLK2/I (in) "Either CLK input or input.", 154 CLK3/I (in) "Either CLK input or input.", 156 CLK0/I (in) "Either CLK input or input."
part D pins: 3 TDI (in) "Test Data Input. Loads data into device using 1149.1 state machine.", 41 TCK (in) "Test Clock Input for 1149.1 state machine.", 91 TMS (in) "Test Mode Select Input to control 1149.1 state machine.", 129 TDO (out) "Test Data Output. Shifts data out of device using 1149.1."
part E pins: 4 VCCO (Bank0) (power) "Power supply pin for I/O bank.", 22 VCCO (Bank0) (power) "Power supply pin for I/O bank.", 40 VCCO (Bank0) (power) "Power supply pin for I/O bank.", 42 VCC (power) "Power supply for logic core and JTAG port.", 56 VCCO (Bank0) (power) "Power supply pin for I/O bank.", 69 VCC (power) "Power supply for logic core and JTAG port.", 78 VCCO (Bank1) (power) "Power supply pin for I/O bank.", 88 VCC (power) "Power supply for logic core and JTAG port.", 92 VCCO (Bank1) (power) "Power supply pin for I/O bank.", 110 VCCO (Bank1) (power) "Power supply pin for I/O bank.", 128 VCCO (Bank1) (power) "Power supply pin for I/O bank.", 130 VCC (power) "Power supply for logic core and JTAG port.", 144 VCCO (Bank1) (power) "Power supply pin for I/O bank.", 157 VCC (power) "Power supply for logic core and JTAG port.", 166 VCCO (Bank0) (power) "Power supply pin for I/O bank.", 176 VCC (power) "Power supply for logic core and JTAG port."
part F pins: 2 GND (power) "Ground", 13 GND (Bank0) (power) "I/O Ground", 31 GND (Bank0) (power) "I/O Ground", 46 GND (power) "Ground", 55 GND (Bank0) (power) "I/O Ground", 65 GND (power) "Ground", 67 GND (Bank1) (power) "I/O Ground", 79 GND (Bank1) (power) "I/O Ground", 90 GND (power) "Ground", 101 GND (Bank1) (power) "I/O Ground", 119 GND (Bank1) (power) "I/O Ground", 134 GND (power) "Ground", 143 GND (Bank1) (power) "I/O Ground", 153 GND (power) "Ground", 155 GND (Bank0) (power) "I/O Ground", 167 GND (Bank0) (power) "I/O Ground"
part G pins: 1 NC "Not Connected.", 43 NC "Not Connected.", 44 NC "Not Connected.", 45 NC "Not Connected.", 89 NC "Not Connected.", 131 NC "Not Connected.", 132 NC "Not Connected.", 133 NC "Not Connected."
part A text: BANK 0
part B text: BANK 1

## LC4256V-75T176E
designator U?
ispMACH 4256 SuperFAST High Density PLD, 3.3 V, 128 User I/Os, 176-Pin TQFP, 7.5 ns, Automotive Grade; DatasheetVersion: ver22.3, Mar-2007; PackageVersion: ver01.2 Feb-2007; PackageReference: TQFP176; PackageDescription: 176-Pin Thin Quad Flat Pack (TQFP176); ComponentLink1Description: Manufacturer URL; ComponentLink1URL: http://www.latticesemi.com/; ComponentLink2Description: Datasheet; ComponentLink2URL: http://www.latticesemi.com/dynamic/view_document.cfm?document_id=3646
footprint TQFP176_N (Thin QFP, 176-Leads, Body 24x24mm, Pitch 0.5mm, IPC Medium Density)
footprint TQFP176_L (Thin QFP, 176-Leads, Body 24x24mm, Pitch 0.5mm, IPC High Density)
footprint TQFP176_M (Thin QFP, 176-Leads, Body 24x24mm, Pitch 0.5mm, IPC Low Density)
part A pins: 5 C14, C^7 (io) "General purpose I/O.", 6 C12, C^6 (io) "General purpose I/O.", 7 C10, C^5 (io) "General purpose I/O.", 8 C8, C^4 (io) "General purpose I/O.", 9 C6, C^3 (io) "General purpose I/O.", 10 C4, C^2 (io) "General purpose I/O.", 11 C2, C^1 (io) "General purpose I/O.", 12 C0, C^0 (io) "General purpose I/O.", 14 D14, D^7 (io) "General purpose I/O.", 15 D12, D^6 (io) "General purpose I/O.", 16 D10, D^5 (io) "General purpose I/O.", 17 D8, D^4 (io) "General purpose I/O.", 18 D6, D^3 (io) "General purpose I/O.", 19 D4, D^2 (io) "General purpose I/O.", 20 D2, D^1 (io) "General purpose I/O.", 21 D0, D^0 (io) "General purpose I/O.", 23 E0, E^0 (io) "General purpose I/O.", 24 E2, E^1 (io) "General purpose I/O.", 25 E4, E^2 (io) "General purpose I/O.", 26 E6, E^3 (io) "General purpose I/O.", 27 E8, E^4 (io) "General purpose I/O.", 28 E10, E^5 (io) "General purpose I/O.", 29 E12, E^6 (io) "General purpose I/O.", 30 E14, E^7 (io) "General purpose I/O.", 32 F0, F^0 (io) "General purpose I/O.", 33 F2, F^1 (io) "General purpose I/O.", 34 F4, F^2 (io) "General purpose I/O.", 35 F6, F^3 (io) "General purpose I/O.", 36 F8, F^4 (io) "General purpose I/O.", 37 F10, F^5 (io) "General purpose I/O.", 38 F12, F^6 (io) "General purpose I/O.", 39 F14, F^7 (io) "General purpose I/O.", 47 G14, G^7 (io) "General purpose I/O.", 48 G12, G^6 (io) "General purpose I/O.", 49 G10, G^5 (io) "General purpose I/O.", 50 G8, G^4 (io) "General purpose I/O.", 51 G6, G^3 (io) "General purpose I/O.", 52 G4, G^2 (io) "General purpose I/O.", 53 G2, G^1 (io) "General purpose I/O.", 54 G0, G^0 (io) "General purpose I/O.", 57 H14, H^7 (io) "General purpose I/O.", 58 H12, H^6 (io) "General purpose I/O.", 59 H10, H^5 (io) "General purpose I/O.", 60 H8, H^4 (io) "General purpose I/O.", 61 H6, H^3 (io) "General purpose I/O.", 62 H4, H^2 (io) "General purpose I/O.", 63 H2, H^1 (io) "General purpose I/O.", 64 H0, H^0 (io) "General purpose I/O.", 158 A0, A^0 (io) "General purpose I/O.", 159 A2/GOE0, A^1 (io) "Either Global Output Enable Input or general I/O.", 160 A4, A^2 (io) "General purpose I/O.", 161 A6, A^3 (io) "General purpose I/O.", 162 A8, A^4 (io) "General purpose I/O.", 163 A10, A^5 (io) "General purpose I/O.", 164 A12, A^6 (io) "General purpose I/O.", 165 A14, A^7 (io) "General purpose I/O.", 168 B0, B^0 (io) "General purpose I/O.", 169 B2, B^1 (io) "General purpose I/O.", 170 B4, B^2 (io) "General purpose I/O.", 171 B6, B^3 (io) "General purpose I/O.", 172 B8, B^4 (io) "General purpose I/O.", 173 B10, B^5 (io) "General purpose I/O.", 174 B12, B^6 (io) "General purpose I/O.", 175 B14, B^7 (io) "General purpose I/O."
part B pins: 70 I0, I^0 (io) "General purpose I/O.", 71 I2, I^1 (io) "General purpose I/O.", 72 I4, I^2 (io) "General purpose I/O.", 73 I6, I^3 (io) "General purpose I/O.", 74 I8, I^4 (io) "General purpose I/O.", 75 I10, I^5 (io) "General purpose I/O.", 76 I12, I^6 (io) "General purpose I/O.", 77 I14, I^7 (io) "General purpose I/O.", 80 J0, J^0 (io) "General purpose I/O.", 81 J2, J^1 (io) "General purpose I/O.", 82 J4, J^2 (io) "General purpose I/O.", 83 J6, J^3 (io) "General purpose I/O.", 84 J8, J^4 (io) "General purpose I/O.", 85 J10, J^5 (io) "General purpose I/O.", 86 J12, J^6 (io) "General purpose I/O.", 87 J14, J^7 (io) "General purpose I/O.", 93 K14, K^7 (io) "General purpose I/O.", 94 K12, K^6 (io) "General purpose I/O.", 95 K10, K^5 (io) "General purpose I/O.", 96 K8, K^4 (io) "General purpose I/O.", 97 K6, K^3 (io) "General purpose I/O.", 98 K4, K^2 (io) "General purpose I/O.", 99 K2, K^1 (io) "General purpose I/O.", 100 K0, K^0 (io) "General purpose I/O.", 102 L14, L^7 (io) "General purpose I/O.", 103 L12, L^6 (io) "General purpose I/O.", 104 L10, L^5 (io) "General purpose I/O.", 105 L8, L^4 (io) "General purpose I/O.", 106 L6, L^3 (io) "General purpose I/O.", 107 L4, L^2 (io) "General purpose I/O.", 108 L2, L^1 (io) "General purpose I/O.", 109 L0, L^0 (io) "General purpose I/O.", 111 M0, M^0 (io) "General purpose I/O.", 112 M2, M^1 (io) "General purpose I/O.", 113 M4, M^2 (io) "General purpose I/O.", 114 M6, M^3 (io) "General purpose I/O.", 115 M8, M^4 (io) "General purpose I/O.", 116 M10, M^5 (io) "General purpose I/O.", 117 M12, M^6 (io) "General purpose I/O.", 118 M14, M^7 (io) "General purpose I/O.", 120 N0, N^0 (io) "General purpose I/O.", 121 N2, N^1 (io) "General purpose I/O.", 122 N4, N^2 (io) "General purpose I/O.", 123 N6, N^3 (io) "General purpose I/O.", 124 N8, N^4 (io) "General purpose I/O.", 125 N10, N^5 (io) "General purpose I/O.", 126 N12, N^6 (io) "General purpose I/O.", 127 N14, N^7 (io) "General purpose I/O.", 135 O14, O^7 (io) "General purpose I/O.", 136 O12, O^6 (io) "General purpose I/O.", 137 O10, O^5 (io) "General purpose I/O.", 138 O8, O^4 (io) "General purpose I/O.", 139 O6, O^3 (io) "General purpose I/O.", 140 O4, O^2 (io) "General purpose I/O.", 141 O2, O^1 (io) "General purpose I/O.", 142 O0, O^0 (io) "General purpose I/O.", 145 P14, P^7 (io) "General purpose I/O.", 146 P12, P^6 (io) "General purpose I/O.", 147 P10, P^5 (io) "General purpose I/O.", 148 P8, P^4 (io) "General purpose I/O.", 149 P6, P^3 (io) "General purpose I/O.", 150 P4, P^2 (io) "General purpose I/O.", 151 P2/GOE1, P^1 (io) "Either Global Output Enable Input or general I/O.", 152 P0, P^0 (io) "General purpose I/O."
part C pins: 66 CLK1/I (in) "Either CLK input or input.", 68 CLK2/I (in) "Either CLK input or input.", 154 CLK3/I (in) "Either CLK input or input.", 156 CLK0/I (in) "Either CLK input or input."
part D pins: 3 TDI (in) "Test Data Input. Loads data into device using 1149.1 state machine.", 41 TCK (in) "Test Clock Input for 1149.1 state machine.", 91 TMS (in) "Test Mode Select Input to control 1149.1 state machine.", 129 TDO (out) "Test Data Output. Shifts data out of device using 1149.1."
part E pins: 4 VCCO (Bank0) (power) "Power supply pin for I/O bank.", 22 VCCO (Bank0) (power) "Power supply pin for I/O bank.", 40 VCCO (Bank0) (power) "Power supply pin for I/O bank.", 42 VCC (power) "Power supply for logic core and JTAG port.", 56 VCCO (Bank0) (power) "Power supply pin for I/O bank.", 69 VCC (power) "Power supply for logic core and JTAG port.", 78 VCCO (Bank1) (power) "Power supply pin for I/O bank.", 88 VCC (power) "Power supply for logic core and JTAG port.", 92 VCCO (Bank1) (power) "Power supply pin for I/O bank.", 110 VCCO (Bank1) (power) "Power supply pin for I/O bank.", 128 VCCO (Bank1) (power) "Power supply pin for I/O bank.", 130 VCC (power) "Power supply for logic core and JTAG port.", 144 VCCO (Bank1) (power) "Power supply pin for I/O bank.", 157 VCC (power) "Power supply for logic core and JTAG port.", 166 VCCO (Bank0) (power) "Power supply pin for I/O bank.", 176 VCC (power) "Power supply for logic core and JTAG port."
part F pins: 2 GND (power) "Ground", 13 GND (Bank0) (power) "I/O Ground", 31 GND (Bank0) (power) "I/O Ground", 46 GND (power) "Ground", 55 GND (Bank0) (power) "I/O Ground", 65 GND (power) "Ground", 67 GND (Bank1) (power) "I/O Ground", 79 GND (Bank1) (power) "I/O Ground", 90 GND (power) "Ground", 101 GND (Bank1) (power) "I/O Ground", 119 GND (Bank1) (power) "I/O Ground", 134 GND (power) "Ground", 143 GND (Bank1) (power) "I/O Ground", 153 GND (power) "Ground", 155 GND (Bank0) (power) "I/O Ground", 167 GND (Bank0) (power) "I/O Ground"
part G pins: 1 NC "Not Connected.", 43 NC "Not Connected.", 44 NC "Not Connected.", 45 NC "Not Connected.", 89 NC "Not Connected.", 131 NC "Not Connected.", 132 NC "Not Connected.", 133 NC "Not Connected."
part A text: BANK 0
part B text: BANK 1

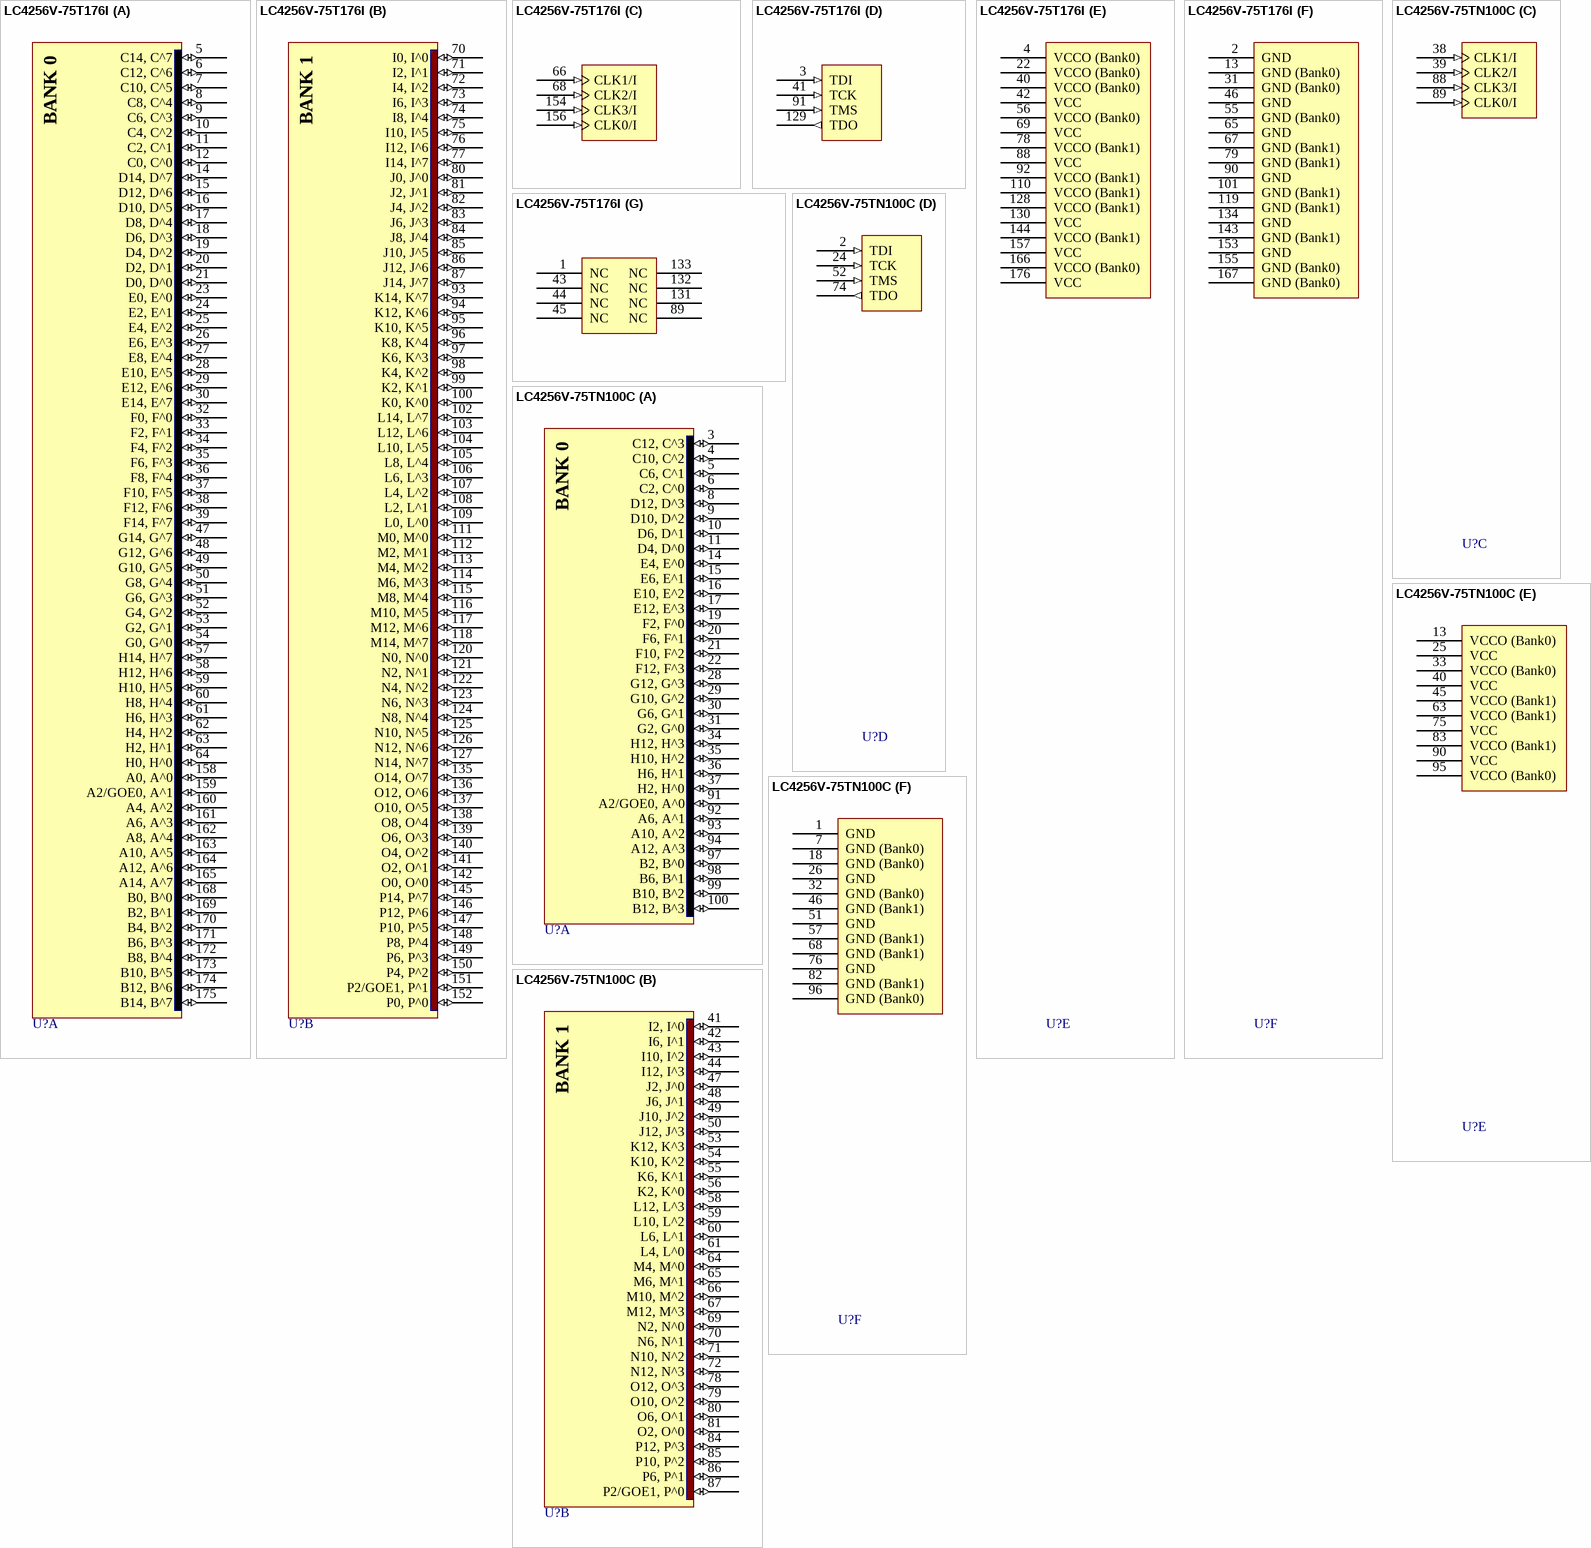
[diagram p80: symbols LC4256V-75T176I to LC4256V-75TN100C]

## LC4256V-75T176I
designator U?
ispMACH 4256 SuperFAST High Density PLD, 3.3 V, 128 User I/Os, 176-Pin TQFP, 7.5 ns, Industrial Grade; DatasheetVersion: ver22.3, Mar-2007; PackageVersion: ver01.2 Feb-2007; PackageReference: TQFP176; PackageDescription: 176-Pin Thin Quad Flat Pack (TQFP176); ComponentLink1Description: Manufacturer URL; ComponentLink1URL: http://www.latticesemi.com/; ComponentLink2Description: Datasheet; ComponentLink2URL: http://www.latticesemi.com/dynamic/view_document.cfm?document_id=3646
footprint TQFP176_N (Thin QFP, 176-Leads, Body 24x24mm, Pitch 0.5mm, IPC Medium Density)
footprint TQFP176_L (Thin QFP, 176-Leads, Body 24x24mm, Pitch 0.5mm, IPC High Density)
footprint TQFP176_M (Thin QFP, 176-Leads, Body 24x24mm, Pitch 0.5mm, IPC Low Density)
part A pins: 5 C14, C^7 (io) "General purpose I/O.", 6 C12, C^6 (io) "General purpose I/O.", 7 C10, C^5 (io) "General purpose I/O.", 8 C8, C^4 (io) "General purpose I/O.", 9 C6, C^3 (io) "General purpose I/O.", 10 C4, C^2 (io) "General purpose I/O.", 11 C2, C^1 (io) "General purpose I/O.", 12 C0, C^0 (io) "General purpose I/O.", 14 D14, D^7 (io) "General purpose I/O.", 15 D12, D^6 (io) "General purpose I/O.", 16 D10, D^5 (io) "General purpose I/O.", 17 D8, D^4 (io) "General purpose I/O.", 18 D6, D^3 (io) "General purpose I/O.", 19 D4, D^2 (io) "General purpose I/O.", 20 D2, D^1 (io) "General purpose I/O.", 21 D0, D^0 (io) "General purpose I/O.", 23 E0, E^0 (io) "General purpose I/O.", 24 E2, E^1 (io) "General purpose I/O.", 25 E4, E^2 (io) "General purpose I/O.", 26 E6, E^3 (io) "General purpose I/O.", 27 E8, E^4 (io) "General purpose I/O.", 28 E10, E^5 (io) "General purpose I/O.", 29 E12, E^6 (io) "General purpose I/O.", 30 E14, E^7 (io) "General purpose I/O.", 32 F0, F^0 (io) "General purpose I/O.", 33 F2, F^1 (io) "General purpose I/O.", 34 F4, F^2 (io) "General purpose I/O.", 35 F6, F^3 (io) "General purpose I/O.", 36 F8, F^4 (io) "General purpose I/O.", 37 F10, F^5 (io) "General purpose I/O.", 38 F12, F^6 (io) "General purpose I/O.", 39 F14, F^7 (io) "General purpose I/O.", 47 G14, G^7 (io) "General purpose I/O.", 48 G12, G^6 (io) "General purpose I/O.", 49 G10, G^5 (io) "General purpose I/O.", 50 G8, G^4 (io) "General purpose I/O.", 51 G6, G^3 (io) "General purpose I/O.", 52 G4, G^2 (io) "General purpose I/O.", 53 G2, G^1 (io) "General purpose I/O.", 54 G0, G^0 (io) "General purpose I/O.", 57 H14, H^7 (io) "General purpose I/O.", 58 H12, H^6 (io) "General purpose I/O.", 59 H10, H^5 (io) "General purpose I/O.", 60 H8, H^4 (io) "General purpose I/O.", 61 H6, H^3 (io) "General purpose I/O.", 62 H4, H^2 (io) "General purpose I/O.", 63 H2, H^1 (io) "General purpose I/O.", 64 H0, H^0 (io) "General purpose I/O.", 158 A0, A^0 (io) "General purpose I/O.", 159 A2/GOE0, A^1 (io) "Either Global Output Enable Input or general I/O.", 160 A4, A^2 (io) "General purpose I/O.", 161 A6, A^3 (io) "General purpose I/O.", 162 A8, A^4 (io) "General purpose I/O.", 163 A10, A^5 (io) "General purpose I/O.", 164 A12, A^6 (io) "General purpose I/O.", 165 A14, A^7 (io) "General purpose I/O.", 168 B0, B^0 (io) "General purpose I/O.", 169 B2, B^1 (io) "General purpose I/O.", 170 B4, B^2 (io) "General purpose I/O.", 171 B6, B^3 (io) "General purpose I/O.", 172 B8, B^4 (io) "General purpose I/O.", 173 B10, B^5 (io) "General purpose I/O.", 174 B12, B^6 (io) "General purpose I/O.", 175 B14, B^7 (io) "General purpose I/O."
part B pins: 70 I0, I^0 (io) "General purpose I/O.", 71 I2, I^1 (io) "General purpose I/O.", 72 I4, I^2 (io) "General purpose I/O.", 73 I6, I^3 (io) "General purpose I/O.", 74 I8, I^4 (io) "General purpose I/O.", 75 I10, I^5 (io) "General purpose I/O.", 76 I12, I^6 (io) "General purpose I/O.", 77 I14, I^7 (io) "General purpose I/O.", 80 J0, J^0 (io) "General purpose I/O.", 81 J2, J^1 (io) "General purpose I/O.", 82 J4, J^2 (io) "General purpose I/O.", 83 J6, J^3 (io) "General purpose I/O.", 84 J8, J^4 (io) "General purpose I/O.", 85 J10, J^5 (io) "General purpose I/O.", 86 J12, J^6 (io) "General purpose I/O.", 87 J14, J^7 (io) "General purpose I/O.", 93 K14, K^7 (io) "General purpose I/O.", 94 K12, K^6 (io) "General purpose I/O.", 95 K10, K^5 (io) "General purpose I/O.", 96 K8, K^4 (io) "General purpose I/O.", 97 K6, K^3 (io) "General purpose I/O.", 98 K4, K^2 (io) "General purpose I/O.", 99 K2, K^1 (io) "General purpose I/O.", 100 K0, K^0 (io) "General purpose I/O.", 102 L14, L^7 (io) "General purpose I/O.", 103 L12, L^6 (io) "General purpose I/O.", 104 L10, L^5 (io) "General purpose I/O.", 105 L8, L^4 (io) "General purpose I/O.", 106 L6, L^3 (io) "General purpose I/O.", 107 L4, L^2 (io) "General purpose I/O.", 108 L2, L^1 (io) "General purpose I/O.", 109 L0, L^0 (io) "General purpose I/O.", 111 M0, M^0 (io) "General purpose I/O.", 112 M2, M^1 (io) "General purpose I/O.", 113 M4, M^2 (io) "General purpose I/O.", 114 M6, M^3 (io) "General purpose I/O.", 115 M8, M^4 (io) "General purpose I/O.", 116 M10, M^5 (io) "General purpose I/O.", 117 M12, M^6 (io) "General purpose I/O.", 118 M14, M^7 (io) "General purpose I/O.", 120 N0, N^0 (io) "General purpose I/O.", 121 N2, N^1 (io) "General purpose I/O.", 122 N4, N^2 (io) "General purpose I/O.", 123 N6, N^3 (io) "General purpose I/O.", 124 N8, N^4 (io) "General purpose I/O.", 125 N10, N^5 (io) "General purpose I/O.", 126 N12, N^6 (io) "General purpose I/O.", 127 N14, N^7 (io) "General purpose I/O.", 135 O14, O^7 (io) "General purpose I/O.", 136 O12, O^6 (io) "General purpose I/O.", 137 O10, O^5 (io) "General purpose I/O.", 138 O8, O^4 (io) "General purpose I/O.", 139 O6, O^3 (io) "General purpose I/O.", 140 O4, O^2 (io) "General purpose I/O.", 141 O2, O^1 (io) "General purpose I/O.", 142 O0, O^0 (io) "General purpose I/O.", 145 P14, P^7 (io) "General purpose I/O.", 146 P12, P^6 (io) "General purpose I/O.", 147 P10, P^5 (io) "General purpose I/O.", 148 P8, P^4 (io) "General purpose I/O.", 149 P6, P^3 (io) "General purpose I/O.", 150 P4, P^2 (io) "General purpose I/O.", 151 P2/GOE1, P^1 (io) "Either Global Output Enable Input or general I/O.", 152 P0, P^0 (io) "General purpose I/O."
part C pins: 66 CLK1/I (in) "Either CLK input or input.", 68 CLK2/I (in) "Either CLK input or input.", 154 CLK3/I (in) "Either CLK input or input.", 156 CLK0/I (in) "Either CLK input or input."
part D pins: 3 TDI (in) "Test Data Input. Loads data into device using 1149.1 state machine.", 41 TCK (in) "Test Clock Input for 1149.1 state machine.", 91 TMS (in) "Test Mode Select Input to control 1149.1 state machine.", 129 TDO (out) "Test Data Output. Shifts data out of device using 1149.1."
part E pins: 4 VCCO (Bank0) (power) "Power supply pin for I/O bank.", 22 VCCO (Bank0) (power) "Power supply pin for I/O bank.", 40 VCCO (Bank0) (power) "Power supply pin for I/O bank.", 42 VCC (power) "Power supply for logic core and JTAG port.", 56 VCCO (Bank0) (power) "Power supply pin for I/O bank.", 69 VCC (power) "Power supply for logic core and JTAG port.", 78 VCCO (Bank1) (power) "Power supply pin for I/O bank.", 88 VCC (power) "Power supply for logic core and JTAG port.", 92 VCCO (Bank1) (power) "Power supply pin for I/O bank.", 110 VCCO (Bank1) (power) "Power supply pin for I/O bank.", 128 VCCO (Bank1) (power) "Power supply pin for I/O bank.", 130 VCC (power) "Power supply for logic core and JTAG port.", 144 VCCO (Bank1) (power) "Power supply pin for I/O bank.", 157 VCC (power) "Power supply for logic core and JTAG port.", 166 VCCO (Bank0) (power) "Power supply pin for I/O bank.", 176 VCC (power) "Power supply for logic core and JTAG port."
part F pins: 2 GND (power) "Ground", 13 GND (Bank0) (power) "I/O Ground", 31 GND (Bank0) (power) "I/O Ground", 46 GND (power) "Ground", 55 GND (Bank0) (power) "I/O Ground", 65 GND (power) "Ground", 67 GND (Bank1) (power) "I/O Ground", 79 GND (Bank1) (power) "I/O Ground", 90 GND (power) "Ground", 101 GND (Bank1) (power) "I/O Ground", 119 GND (Bank1) (power) "I/O Ground", 134 GND (power) "Ground", 143 GND (Bank1) (power) "I/O Ground", 153 GND (power) "Ground", 155 GND (Bank0) (power) "I/O Ground", 167 GND (Bank0) (power) "I/O Ground"
part G pins: 1 NC "Not Connected.", 43 NC "Not Connected.", 44 NC "Not Connected.", 45 NC "Not Connected.", 89 NC "Not Connected.", 131 NC "Not Connected.", 132 NC "Not Connected.", 133 NC "Not Connected."
part A text: BANK 0
part B text: BANK 1

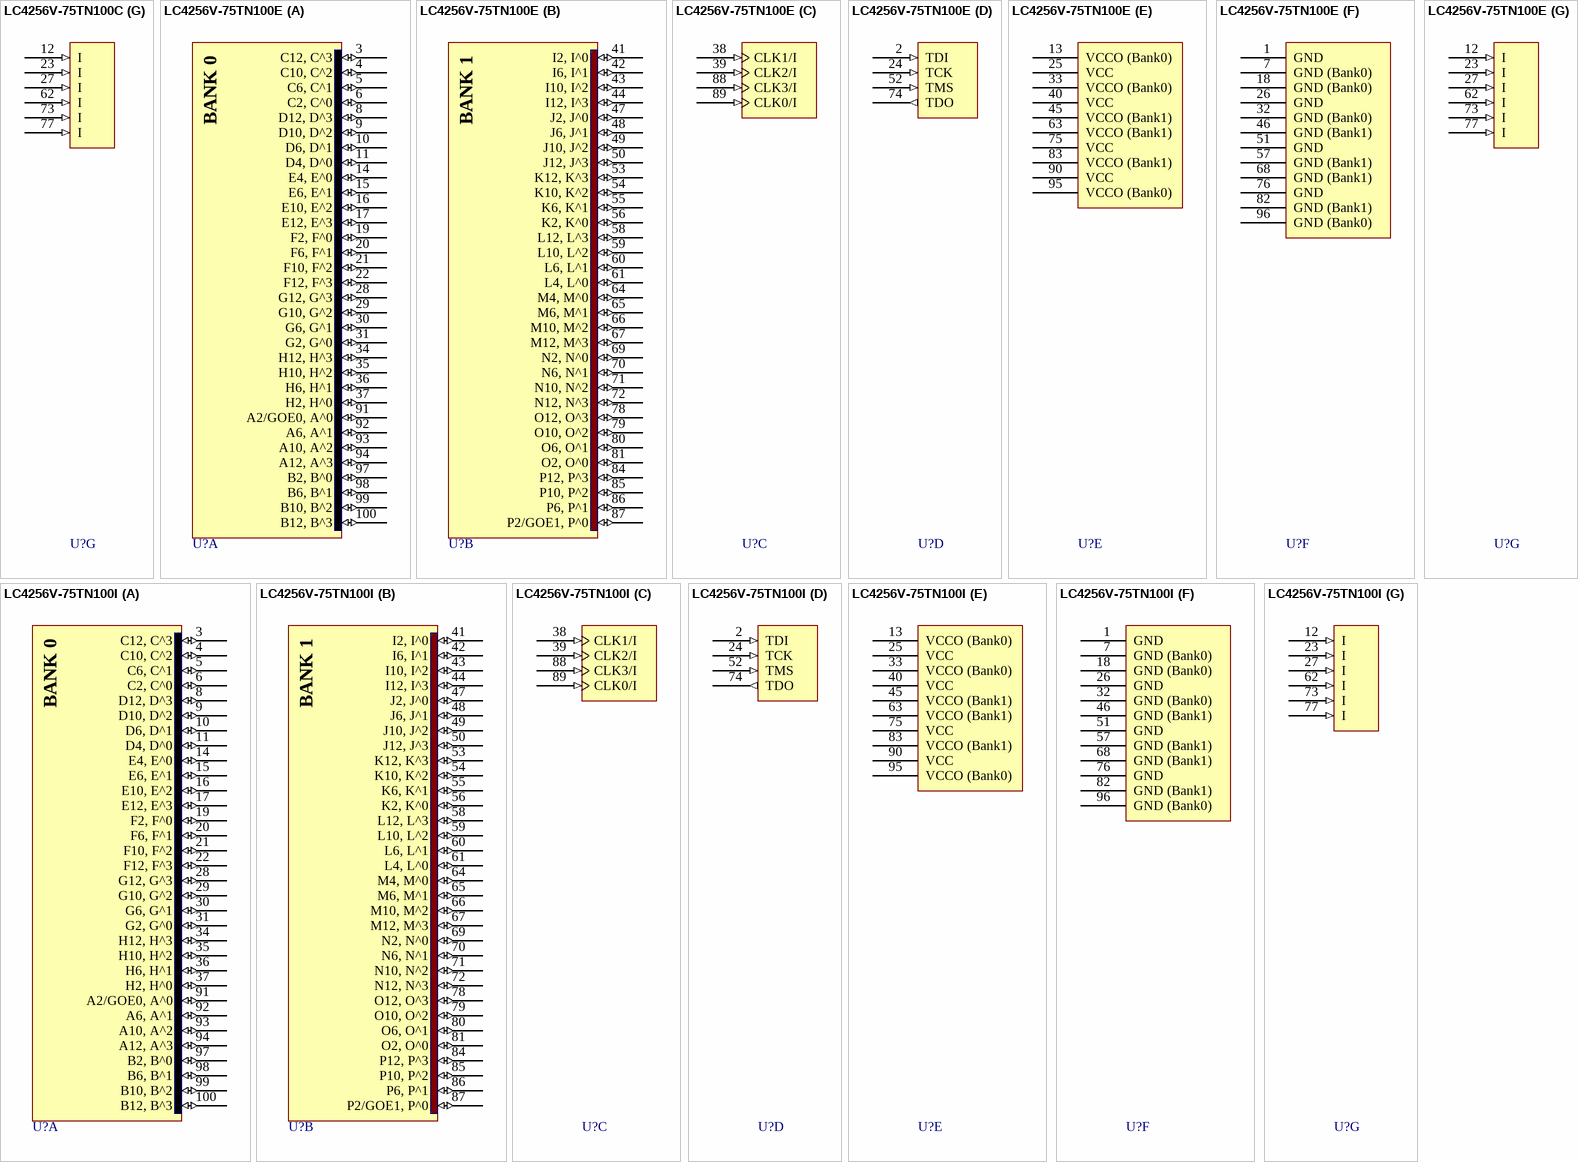
[diagram p81: symbols LC4256V-75TN100C to LC4256V-75TN100I]